# Altium schematic symbol library Trans_Infineon_IRF7821PBF_eec.SchLib: 1 symbol
Pins are listed as number, name and electrical type; pins without a type are passive.

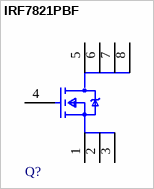
[diagram p0: symbol IRF7821PBF]

## IRF7821PBF
designator Q?  (value not drawn)
pins: 1 S, 2 S, 3 S, 4 G, 5 D, 6 D, 7 D, 8 D